# EAGLE library part IS61WV102416 (library sjg-ram)
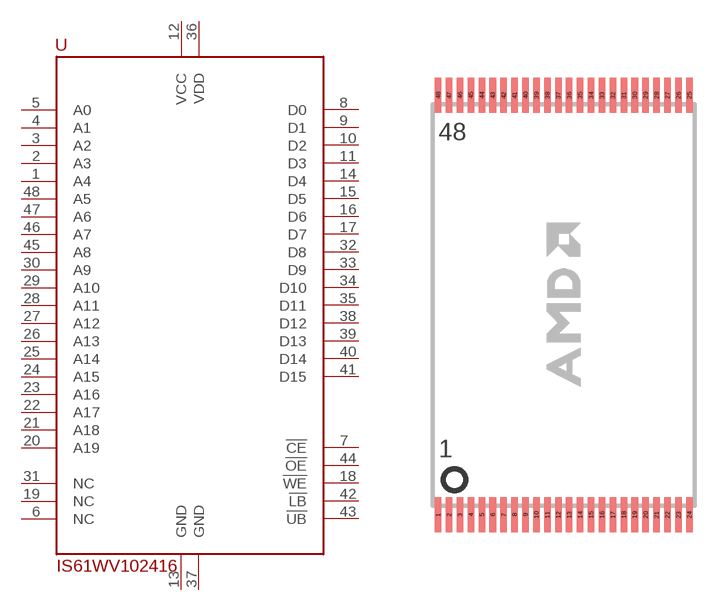
[diagram p0: symbol with the pads of TSOP48; footprint TSOP48]

Designator prefix -

## IS61WV102416  [TSOP48]
1  A4
2  A3
3  A2
4  A1
5  A0
6  NC
7  !CE!
8  D0
9  D1
10  D2
11  D3
12  VCC
13  GND
14  D4
15  D5
16  D6
17  D7
18  !WE!
19  NC
20  A19
21  A18
22  A17
23  A16
24  A15
25  A14
26  A13
27  A12
28  A11
29  A10
30  A9
31  NC
32  D8
33  D9
34  D10
35  D11
36  VDD
37  GND
38  D12
39  D13
40  D14
41  D15
42  !LB!
43  !UB!
44  !OE!
45  A8
46  A7
47  A6
48  A5

## Footprint TSOP48 (pad centres in mm)
Thin Small Outline Plastic Package
smd 0.3 x 1.6: 1 -5.75,-9.6; 2 -5.25,-9.6; 3 -4.75,-9.6; 4 -4.25,-9.6; 5 -3.75,-9.6; 6 -3.25,-9.6; 7 -2.75,-9.6; 8 -2.25,-9.6; 9 -1.75,-9.6; 10 -1.25,-9.6; 11 -0.75,-9.6; 12 -0.25,-9.6; 13 0.25,-9.6; 14 0.75,-9.6; 15 1.25,-9.6; 16 1.75,-9.6; 17 2.25,-9.6; 18 2.75,-9.6; 19 3.25,-9.6; 20 3.75,-9.6; 21 4.25,-9.6; 22 4.75,-9.6; 23 5.25,-9.6; 24 5.75,-9.6; 25 5.75,9.6; 26 5.25,9.6; 27 4.75,9.6; 28 4.25,9.6; 29 3.75,9.6; 30 3.25,9.6; 31 2.75,9.6; 32 2.25,9.6; 33 1.75,9.6; 34 1.25,9.6; 35 0.75,9.6; 36 0.25,9.6; 37 -0.25,9.6; 38 -0.75,9.6; 39 -1.25,9.6; 40 -1.75,9.6; 41 -2.25,9.6; 42 -2.75,9.6; 43 -3.25,9.6; 44 -3.75,9.6; 45 -4.25,9.6; 46 -4.75,9.6; 47 -5.25,9.6; 48 -5.75,9.6